# EAGLE library part SPARKFUN-TB6612FNG (library ukmarsbot)
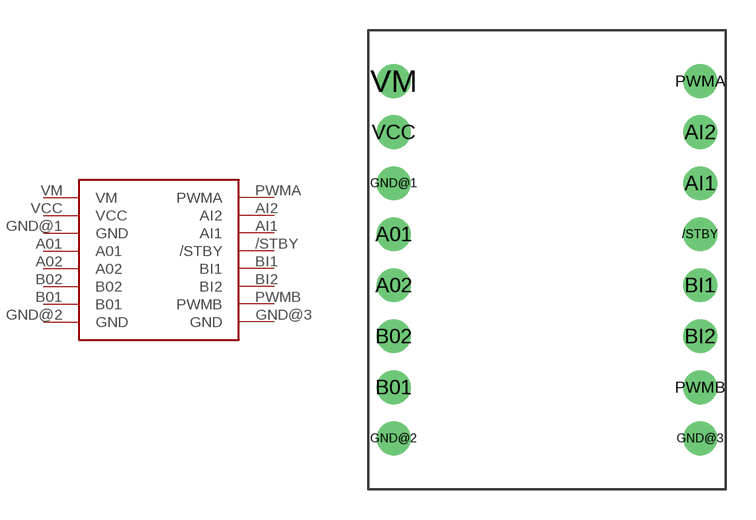
[diagram p1: symbol with the pads of SPARKFUN-TB6612FNG; footprint SPARKFUN-TB6612FNG]

Designator prefix -

## SPARKFUN-TB6612FNG  [SPARKFUN-TB6612FNG]
/STBY  /STBY
A01  A01
A02  A02
AI1  AI1
AI2  AI2
B01  B01
B02  B02
BI1  BI1
BI2  BI2
GND@1  GND
GND@2  GND
GND@3  GND
PWMA  PWMA
PWMB  PWMB
VCC  VCC
VM  VM

## Footprint SPARKFUN-TB6612FNG (pad centres in mm)
drill 1 pad 1.676: /STBY 7.62,2.54; A01 -7.62,2.54; A02 -7.62,0; AI1 7.62,5.08; AI2 7.62,7.62; B01 -7.62,-5.08; B02 -7.62,-2.54; BI1 7.62,0; BI2 7.62,-2.54; GND@1 -7.62,5.08; GND@2 -7.62,-7.62; GND@3 7.62,-7.62; PWMA 7.62,10.16; PWMB 7.62,-5.08; VCC -7.62,7.62; VM -7.62,10.16